# Altium integrated library ubloxLib.IntLib: 88 symbols (part 3 of 3)
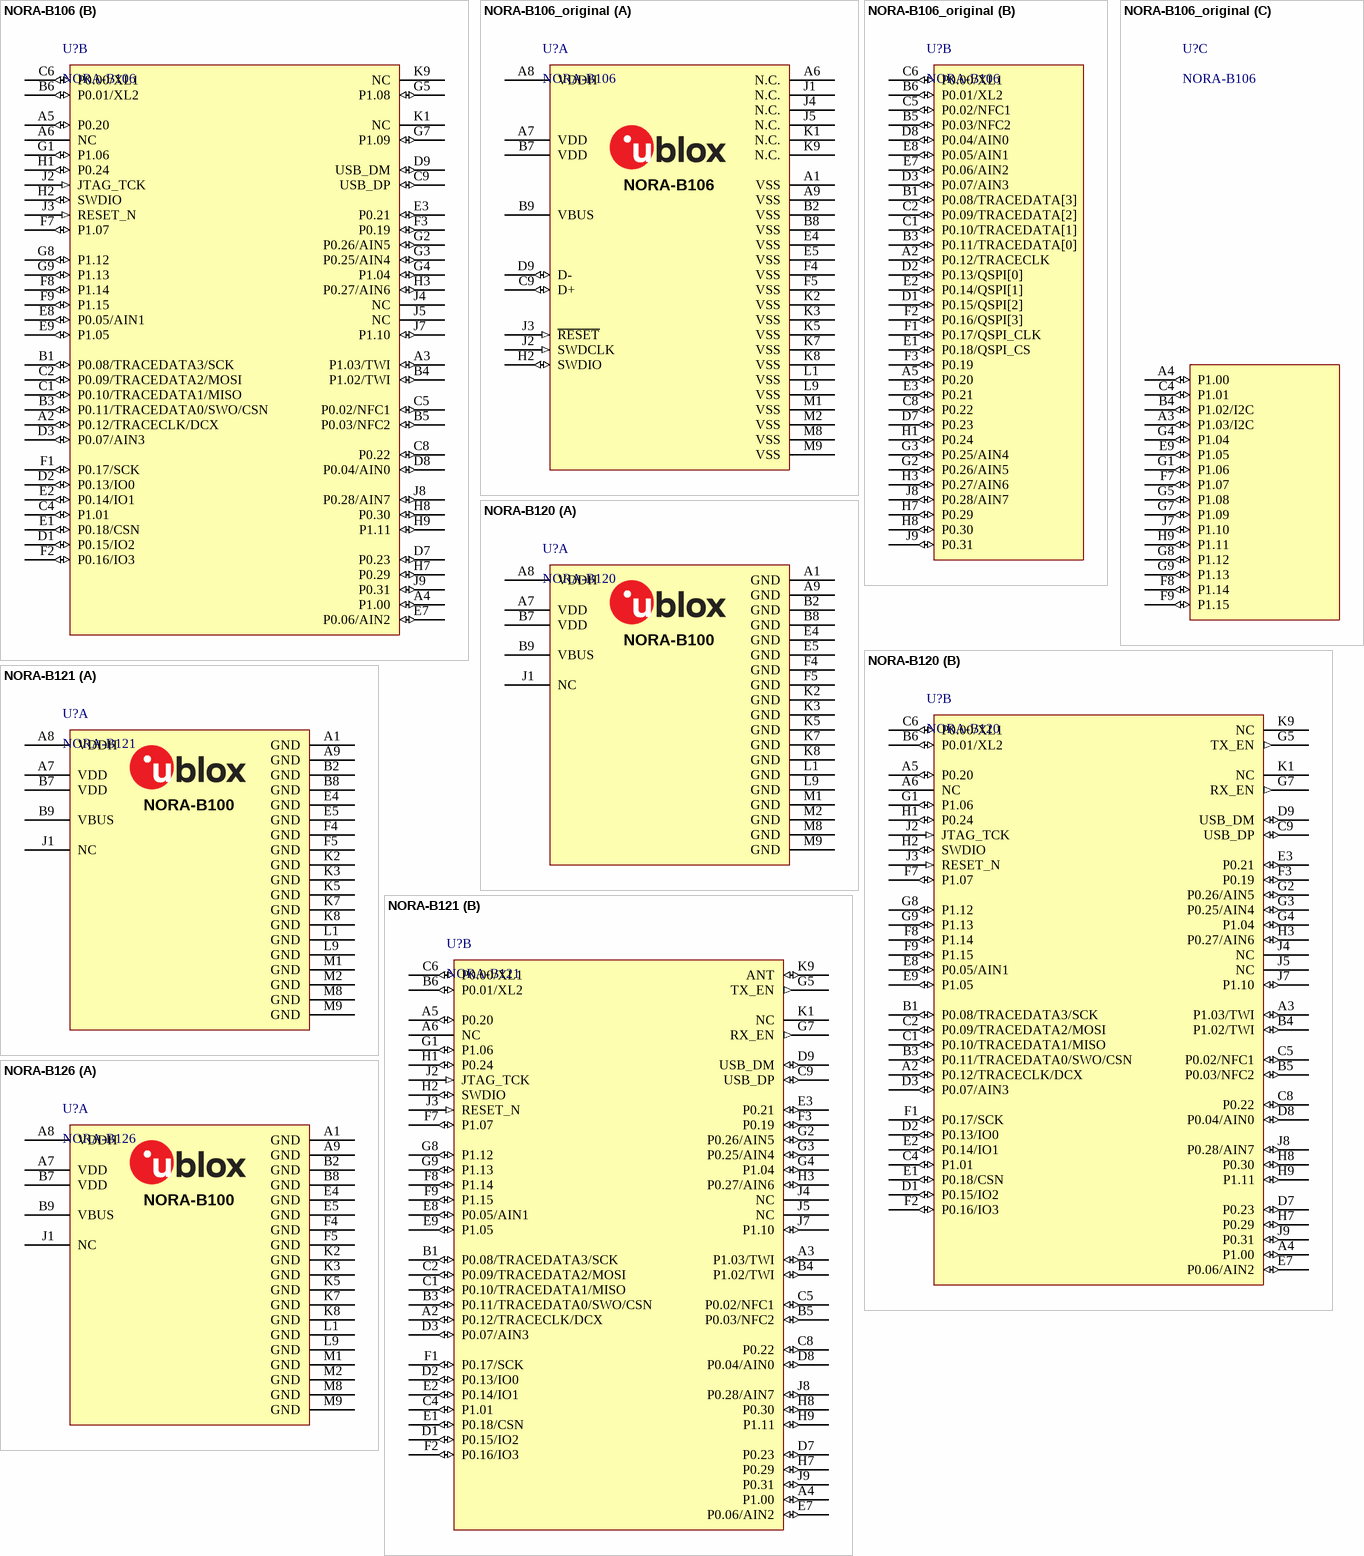
[diagram p21: symbols NORA-B106 to NORA-B126]

## NORA-B120
designator U?
u-blox NORA-B120 Bluetooth 5.2 LE module - dual core - FEM - U.FL; Manufacturer P/N: NORA-B101-00B; Part Number: NORA-B101; Part Description: Stand-alone Bluetooth low energy module - dual-core; Body Size: 14.3 mm x 10.4 mm; Value: NORA-W101; Part Name: NORA-B101; Part_Type: Module; Manufacturer: u-blox; Height: 1.8 mm
footprint NORA_LGA82R_1430X1040X185_UFL (NORA LGA, 82pin ,1.1mm Pitch, 14.3mm x 10.4mm, for NORA-B120)
part A pins: A1 GND (power), A7 VDD (power), A8 VDDH (power), A9 GND (power), B2 GND (power), B7 VDD (power), B8 GND (power), B9 VBUS (power), E4 GND (power), E5 GND (power), F4 GND (power), F5 GND (power), J1 NC, K2 GND (power), K3 GND (power), K5 GND (power), K7 GND (power), K8 GND (power), L1 GND (power), L9 GND (power), M1 GND (power), M2 GND (power), M8 GND (power), M9 GND (power)
part B pins: A2 P0.12/TRACECLK/DCX (io), A3 P1.03/TWI (io), A4 P1.00 (io), A5 P0.20 (io), A6 NC, B1 P0.08/TRACEDATA3/SCK (io), B3 P0.11/TRACEDATA0/SWO/CSN (io), B4 P1.02/TWI (io), B5 P0.03/NFC2 (io), B6 P0.01/XL2 (io), C1 P0.10/TRACEDATA1/MISO (io), C2 P0.09/TRACEDATA2/MOSI (io), C4 P1.01 (io), C5 P0.02/NFC1 (io), C6 P0.00/XL1 (io), C8 P0.22 (io), C9 USB_DP (io), D1 P0.15/IO2 (io), D2 P0.13/IO0 (io), D3 P0.07/AIN3 (io), D7 P0.23 (io), D8 P0.04/AIN0 (io), D9 USB_DM (io), E1 P0.18/CSN (io), E2 P0.14/IO1 (io), E3 P0.21 (io), E7 P0.06/AIN2 (io), E8 P0.05/AIN1 (io), E9 P1.05 (io), F1 P0.17/SCK (io), F2 P0.16/IO3 (io), F3 P0.19 (io), F7 P1.07 (io), F8 P1.14 (io), F9 P1.15 (io), G1 P1.06 (io), G2 P0.26/AIN5 (io), G3 P0.25/AIN4 (io), G4 P1.04 (io), G5 TX_EN (out), G7 RX_EN (out), G8 P1.12 (io), G9 P1.13 (io), H1 P0.24 (io), H2 SWDIO (io), H3 P0.27/AIN6 (io), H7 P0.29 (io), H8 P0.30 (io), H9 P1.11 (io), J2 JTAG_TCK (in), J3 RESET_N (in), J4 NC, J5 NC, J7 P1.10 (io), J8 P0.28/AIN7 (io), J9 P0.31 (io), K1 NC, K9 NC
part A text: NORA-B100

## NORA-B121
designator U?
u-blox NORA-B121 Bluetooth 5.2 LE module - dual core - FEM - antenna pin; Manufacturer P/N: NORA-B101-00B; Part Number: NORA-B101; Part Description: Stand-alone Bluetooth low energy module - dual-core; Body Size: 14.3 mm x 10.4 mm; Value: NORA-W101; Part Name: NORA-B101; Part_Type: Module; Manufacturer: u-blox; Height: 1.8 mm
footprint NORA_LGA82R_1430X1040X185_PIN (NORA LGA, 82pin ,1.1mm Pitch, 14.3mm x 10.4mm, for NORA-B121)
part A pins: A1 GND (power), A7 VDD (power), A8 VDDH (power), A9 GND (power), B2 GND (power), B7 VDD (power), B8 GND (power), B9 VBUS (power), E4 GND (power), E5 GND (power), F4 GND (power), F5 GND (power), J1 NC, K2 GND (power), K3 GND (power), K5 GND (power), K7 GND (power), K8 GND (power), L1 GND (power), L9 GND (power), M1 GND (power), M2 GND (power), M8 GND (power), M9 GND (power)
part B pins: A2 P0.12/TRACECLK/DCX (io), A3 P1.03/TWI (io), A4 P1.00 (io), A5 P0.20 (io), A6 NC, B1 P0.08/TRACEDATA3/SCK (io), B3 P0.11/TRACEDATA0/SWO/CSN (io), B4 P1.02/TWI (io), B5 P0.03/NFC2 (io), B6 P0.01/XL2 (io), C1 P0.10/TRACEDATA1/MISO (io), C2 P0.09/TRACEDATA2/MOSI (io), C4 P1.01 (io), C5 P0.02/NFC1 (io), C6 P0.00/XL1 (io), C8 P0.22 (io), C9 USB_DP (io), D1 P0.15/IO2 (io), D2 P0.13/IO0 (io), D3 P0.07/AIN3 (io), D7 P0.23 (io), D8 P0.04/AIN0 (io), D9 USB_DM (io), E1 P0.18/CSN (io), E2 P0.14/IO1 (io), E3 P0.21 (io), E7 P0.06/AIN2 (io), E8 P0.05/AIN1 (io), E9 P1.05 (io), F1 P0.17/SCK (io), F2 P0.16/IO3 (io), F3 P0.19 (io), F7 P1.07 (io), F8 P1.14 (io), F9 P1.15 (io), G1 P1.06 (io), G2 P0.26/AIN5 (io), G3 P0.25/AIN4 (io), G4 P1.04 (io), G5 TX_EN (out), G7 RX_EN (out), G8 P1.12 (io), G9 P1.13 (io), H1 P0.24 (io), H2 SWDIO (io), H3 P0.27/AIN6 (io), H7 P0.29 (io), H8 P0.30 (io), H9 P1.11 (io), J2 JTAG_TCK (in), J3 RESET_N (in), J4 NC, J5 NC, J7 P1.10 (io), J8 P0.28/AIN7 (io), J9 P0.31 (io), K1 NC, K9 ANT (io)
part A text: NORA-B100

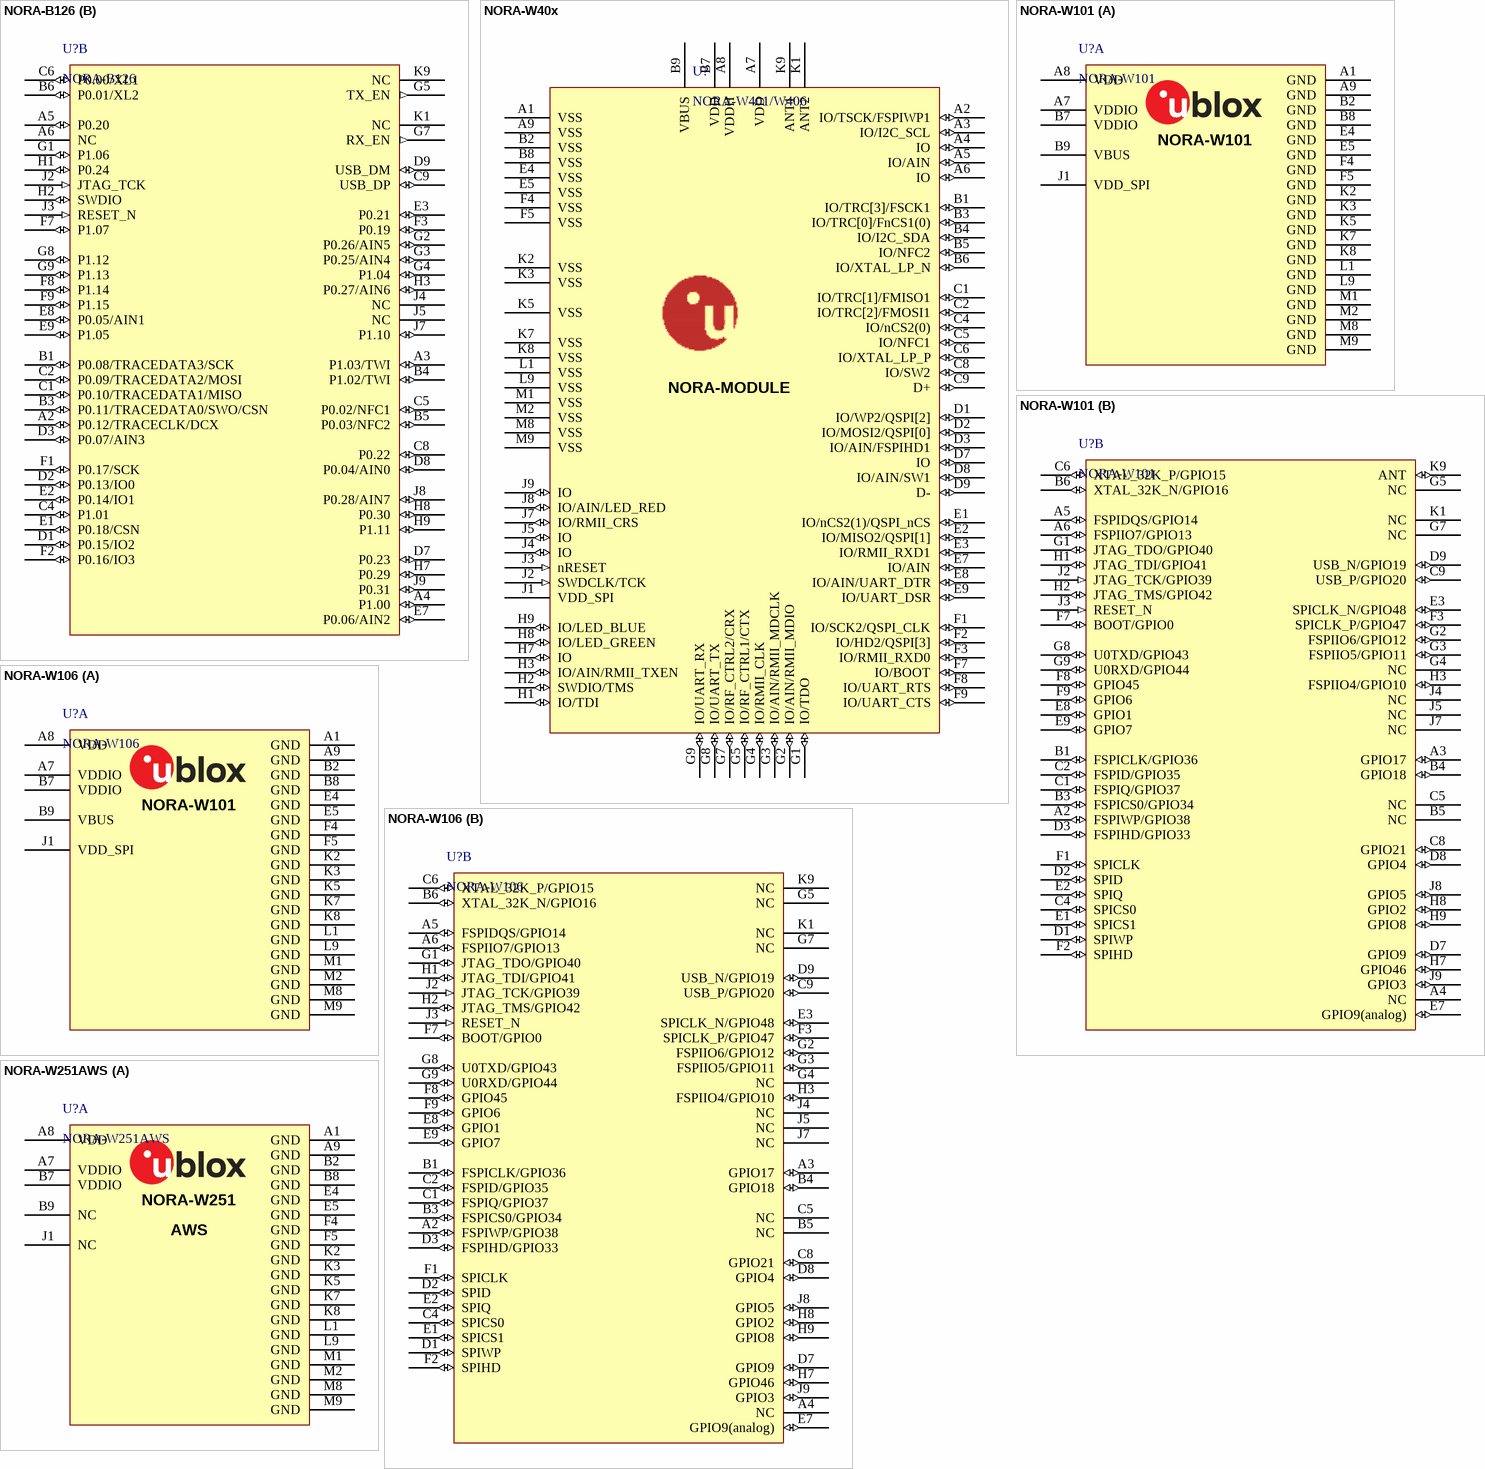
[diagram p14: symbols NORA-B126 to NORA-W251AWS]

## NORA-B126
designator U?
u-blox NORA-B126 Bluetooth 5.2 LE module - dual core - FEM - PCB antenna; Manufacturer P/N: NORA-B101-00B; Part Number: NORA-B101; Part Description: Stand-alone Bluetooth low energy module - dual-core; Body Size: 14.3 mm x 10.4 mm; Value: NORA-W101; Part Name: NORA-B101; Part_Type: Module; Manufacturer: u-blox; Height: 1.8 mm
footprint NORA_LGA82R_1430X1040X185_ANT (NORA LGA, 82pin ,1.1mm Pitch, 14.3mm x 10.4mm, for NORA-B126)
part A pins: A1 GND (power), A7 VDD (power), A8 VDDH (power), A9 GND (power), B2 GND (power), B7 VDD (power), B8 GND (power), B9 VBUS (power), E4 GND (power), E5 GND (power), F4 GND (power), F5 GND (power), J1 NC, K2 GND (power), K3 GND (power), K5 GND (power), K7 GND (power), K8 GND (power), L1 GND (power), L9 GND (power), M1 GND (power), M2 GND (power), M8 GND (power), M9 GND (power)
part B pins: A2 P0.12/TRACECLK/DCX (io), A3 P1.03/TWI (io), A4 P1.00 (io), A5 P0.20 (io), A6 NC, B1 P0.08/TRACEDATA3/SCK (io), B3 P0.11/TRACEDATA0/SWO/CSN (io), B4 P1.02/TWI (io), B5 P0.03/NFC2 (io), B6 P0.01/XL2 (io), C1 P0.10/TRACEDATA1/MISO (io), C2 P0.09/TRACEDATA2/MOSI (io), C4 P1.01 (io), C5 P0.02/NFC1 (io), C6 P0.00/XL1 (io), C8 P0.22 (io), C9 USB_DP (io), D1 P0.15/IO2 (io), D2 P0.13/IO0 (io), D3 P0.07/AIN3 (io), D7 P0.23 (io), D8 P0.04/AIN0 (io), D9 USB_DM (io), E1 P0.18/CSN (io), E2 P0.14/IO1 (io), E3 P0.21 (io), E7 P0.06/AIN2 (io), E8 P0.05/AIN1 (io), E9 P1.05 (io), F1 P0.17/SCK (io), F2 P0.16/IO3 (io), F3 P0.19 (io), F7 P1.07 (io), F8 P1.14 (io), F9 P1.15 (io), G1 P1.06 (io), G2 P0.26/AIN5 (io), G3 P0.25/AIN4 (io), G4 P1.04 (io), G5 TX_EN (out), G7 RX_EN (out), G8 P1.12 (io), G9 P1.13 (io), H1 P0.24 (io), H2 SWDIO (io), H3 P0.27/AIN6 (io), H7 P0.29 (io), H8 P0.30 (io), H9 P1.11 (io), J2 JTAG_TCK (in), J3 RESET_N (in), J4 NC, J5 NC, J7 P1.10 (io), J8 P0.28/AIN7 (io), J9 P0.31 (io), K1 NC, K9 NC
part A text: NORA-B100

## NORA-W40x
designator U?, comment NORA-W401/W406
u-blox NORA module generic symbol; Part Description: NORA MODULE FOOTPRINT; Body Size: 14.3 mm x 10.4 mm; Manufacturer P/N: NORA; Part Number: NORA; Part Name: NORA; Part_Type: Module; Manufacturer: u-blox; Height: 0; Value: NORA
footprint NORA_LGA82R_1430X1040X180_PIN (NORA LGA, 82pin ,1.1mm Pitch, 14.3mm x 10.4mm)
footprint NORA_LGA82R_1430X1040X180_ANT (NORA LGA, 82pin ,1.1mm Pitch, 14.3mm x 10.4mm)
pins: A1 VSS (power) "Ground", A2 IO/TSCK/FSPIWP1 (io) "Trace clock, Fast SPI WP, IO", A3 IO/I2C_SCL (io) "IO, I2C Clock SCL", A4 IO (io), A5 IO/AIN (io) "IO, should be Analog capable if possible", A6 IO (io), A7 VDD (power) "Primary power source and IO reference voltage", A8 VDDH (power) "High voltage power supply", A9 VSS (power) "Ground", B1 IO/TRC[3]/FSCK1 (io) "High-speed SPI Clock, Tracedata[3], IO", B2 VSS (power) "Ground", B3 IO/TRC[0]/FnCS1(0) (io) "High-speed SPI nCS, Tracedata[0], IO", B4 IO/I2C_SDA (io) "IO, I2C Data SDA", B5 IO/NFC2 (io) "NFC Antenna pin 2 or IO", B6 IO/XTAL_LP_N (io) "32kHz XTAL, or 32kHz input, or IO", B7 VDD (power) "Primary power source and IO reference voltage", B8 VSS (power) "Ground", B9 VBUS (power) "+5V USB VBUS Input", C1 IO/TRC[1]/FMISO1 (io) "High-speed SPI MISO, Tracedata[1], IO", C2 IO/TRC[2]/FMOSI1 (io) "High-speed SPI MOSI, Tracedata[2], IO", C4 IO/nCS2(0) (io), C5 IO/NFC1 (io) "NFC Antenna pin 1 or IO", C6 IO/XTAL_LP_P (io), C8 IO/SW2 (io) "IO, assigned to SW2 in u-connect", C9 D+ (io) "USB Data+", D1 IO/WP2/QSPI[2] (io) "IO, Secondary SPI WP QSPI 2 [2]", D2 IO/MOSI2/QSPI[0] (io) "IO, Secondary SPI MOSI, QSPI 2 [0]", D3 IO/AIN/FSPIHD1 (io) "IO, should be Analog capable if possible", D7 IO (io), D8 IO/AIN/SW1 (io) "IO, should be Analog capable if possible, assigned to SW1 in u-connect", D9 D- (io) "USB Data-", E1 IO/nCS2(1)/QSPI_nCS (io) "Secondary SPI chip select, QSPI 2 chip select, IO", E2 IO/MISO2/QSPI[1] (io) "IO, Secondary SPI MISO, QSPI 2 [1]", E3 IO/RMII_RXD1 (io) "Reduced media-independent interface RX data bit 1", E4 VSS (power) "Ground", E5 VSS (power) "Ground", E7 IO/AIN (io) "IO, should be Analog capable if possible", E8 IO/AIN/UART_DTR (io) "IO, should be Analog capable if possible, UART DTR", E9 IO/UART_DSR (io) "IO, UART DSR signal", F1 IO/SCK2/QSPI_CLK (io) "Secondary SPI Clock, QSPI 2 Clock, IO", F2 IO/HD2/QSPI[3] (io) "IO, Secondary SPI HD, QSPI 2 [2]", F3 IO/RMII_RXD0 (io) "IO/Reduced media-independent interface RX data bit 0", F4 VSS (power) "Ground", F5 VSS (power) "Ground", F7 IO/BOOT (io) "IO, may be used to initiate bootloader download", F8 IO/UART_RTS (io) "IO, Primary UART RTS output", F9 IO/UART_CTS (io) "IO, Primary UART CTS input", G1 IO/TDO (io) "IO, JTAG TDO signal", G2 IO/AIN/RMII_MDIO (io) "IO, IO, should be Analog capable if possible, RMII_MDIO", G3 IO/AIN/RMII_MDCLK (io) "IO, IO, should be Analog capable if possible, RMII_MDCLK", G4 IO/RMII_CLK (io) "IO, RMII_CLK", G5 IO/RF_CTRL1/CTX (io) "RF_CTRL1, used to enable Tx for internal FEM modules, IO", G7 IO/RF_CTRL2/CRX (io) "RF_CTRL2, used to enable Rx for internal FEM modules, IO", G8 IO/UART_TX (io) "IO, Primary UART transmit data output", G9 IO/UART_RX (io) "IO, Primary UART receive data input", H1 IO/TDI (io) "IO, JTAG TDI signal", H2 SWDIO/TMS (io) "Debug interface (SWD I/O or JTAG TMS)", H3 IO/AIN/RMII_TXEN (io) "IO, should be Analog capable if possible, RMII_TXEN", H7 IO (io) "IO, may be wired to Blue LED for u-connect-Xpress", H8 IO/LED_GREEN (io) "IO, may be wired to Green LED for u-connect-Xpress", H9 IO/LED_BLUE (io) "IO", J1 VDD_SPI "Alternate IO reference voltage", J2 SWDCLK/TCK (in) "Debug Interface Clock Input", J3 nRESET (in), J4 IO (io), J5 IO (io), J7 IO/RMII_CRS (io) "IO, RMII_CRS", J8 IO/AIN/LED_RED (io) "IO, IO, should be Analog capable if possible, May be connected to Red LED for u-connectXpress", J9 IO (io), K1 ANT2 "Secondary RF Port", K2 VSS (power) "Ground", K3 VSS (power) "Ground", K5 VSS (power) "Ground", K7 VSS (power) "Ground", K8 VSS (power) "Ground", K9 ANT1 "Primary RF Port", L1 VSS (power) "Ground", L9 VSS (power) "Ground", M1 VSS (power) "Ground", M2 VSS (power) "Ground", M8 VSS (power) "Ground", M9 VSS (power) "Ground"
text: NORA-MODULE

## NORA-W101
designator U?
u-blox NORA-W101 Bluetooth LE and Wi-Fi module - antenna pin; Manufacturer P/N: NORA-B101-00B; Part Number: NORA-B101; Part Description: Stand-alone Bluetooth low energy module - dual-core; Body Size: 14.3 mm x 10.4 mm; Part Name: NORA-B101; Part_Type: Module; Manufacturer: u-blox; Height: 1.8 mm; Value: NORA-W101
footprint NORA_LGA82R_1430X1040X190_PIN (NORA LGA, 82pin ,1.1mm Pitch, 14.3mm x 10.4mm x 1.9mm)
part A pins: A1 GND (power), A7 VDDIO (power), A8 VDD (power), A9 GND (power), B2 GND (power), B7 VDDIO (power), B8 GND (power), B9 VBUS (power), E4 GND (power), E5 GND (power), F4 GND (power), F5 GND (power), J1 VDD_SPI (power), K2 GND (power), K3 GND (power), K5 GND (power), K7 GND (power), K8 GND (power), L1 GND (power), L9 GND (power), M1 GND (power), M2 GND (power), M8 GND (power), M9 GND (power)
part B pins: A2 FSPIWP/GPIO38 (io), A3 GPIO17 (io), A4 NC, A5 FSPIDQS/GPIO14 (io), A6 FSPIIO7/GPIO13 (io), B1 FSPICLK/GPIO36 (io), B3 FSPICS0/GPIO34 (io), B4 GPIO18 (io), B5 NC, B6 XTAL_32K_N/GPIO16 (io), C1 FSPIQ/GPIO37 (io), C2 FSPID/GPIO35 (io), C4 SPICS0 (io), C5 NC, C6 XTAL_32K_P/GPIO15 (io), C8 GPIO21 (io), C9 USB_P/GPIO20 (io), D1 SPIWP (io), D2 SPID (io), D3 FSPIHD/GPIO33 (io), D7 GPIO9 (io), D8 GPIO4 (io), D9 USB_N/GPIO19 (io), E1 SPICS1 (io), E2 SPIQ (io), E3 SPICLK_N/GPIO48 (io), E7 GPIO9(analog) (io), E8 GPIO1 (io), E9 GPIO7 (io), F1 SPICLK (io), F2 SPIHD (io), F3 SPICLK_P/GPIO47 (io), F7 BOOT/GPIO0 (io), F8 GPIO45 (io), F9 GPIO6 (io), G1 JTAG_TDO/GPIO40 (io), G2 FSPIIO6/GPIO12 (io), G3 FSPIIO5/GPIO11 (io), G4 NC, G5 NC, G7 NC, G8 U0TXD/GPIO43 (io), G9 U0RXD/GPIO44 (io), H1 JTAG_TDI/GPIO41 (io), H2 JTAG_TMS/GPIO42 (io), H3 FSPIIO4/GPIO10 (io), H7 GPIO46 (io), H8 GPIO2 (io), H9 GPIO8 (io), J2 JTAG_TCK/GPIO39 (in), J3 RESET_N (in), J4 NC, J5 NC, J7 NC, J8 GPIO5 (io), J9 GPIO3 (io), K1 NC, K9 ANT (io)

## NORA-W106
designator U?
u-blox NORA-W106 Bluetooth LE and Wi-Fi module - PCB antenna; Manufacturer P/N: NORA-B101-00B; Part Number: NORA-B101; Part Description: Stand-alone Bluetooth low energy module - dual-core; Body Size: 14.3 mm x 10.4 mm; Value: NORA-W101; Part Name: NORA-B101; Part_Type: Module; Manufacturer: u-blox; Height: 1.8 mm
footprint NORA_LGA82R_1430X1040X190_ANT (NORA LGA, 82pin ,1.1mm Pitch, 14.3mm x 10.4mm x 1.9mm)
part A pins: A1 GND (power), A7 VDDIO (power), A8 VDD (power), A9 GND (power), B2 GND (power), B7 VDDIO (power), B8 GND (power), B9 VBUS (power), E4 GND (power), E5 GND (power), F4 GND (power), F5 GND (power), J1 VDD_SPI (power), K2 GND (power), K3 GND (power), K5 GND (power), K7 GND (power), K8 GND (power), L1 GND (power), L9 GND (power), M1 GND (power), M2 GND (power), M8 GND (power), M9 GND (power)
part B pins: A2 FSPIWP/GPIO38 (io), A3 GPIO17 (io), A4 NC, A5 FSPIDQS/GPIO14 (io), A6 FSPIIO7/GPIO13 (io), B1 FSPICLK/GPIO36 (io), B3 FSPICS0/GPIO34 (io), B4 GPIO18 (io), B5 NC, B6 XTAL_32K_N/GPIO16 (io), C1 FSPIQ/GPIO37 (io), C2 FSPID/GPIO35 (io), C4 SPICS0 (io), C5 NC, C6 XTAL_32K_P/GPIO15 (io), C8 GPIO21 (io), C9 USB_P/GPIO20 (io), D1 SPIWP (io), D2 SPID (io), D3 FSPIHD/GPIO33 (io), D7 GPIO9 (io), D8 GPIO4 (io), D9 USB_N/GPIO19 (io), E1 SPICS1 (io), E2 SPIQ (io), E3 SPICLK_N/GPIO48 (io), E7 GPIO9(analog) (io), E8 GPIO1 (io), E9 GPIO7 (io), F1 SPICLK (io), F2 SPIHD (io), F3 SPICLK_P/GPIO47 (io), F7 BOOT/GPIO0 (io), F8 GPIO45 (io), F9 GPIO6 (io), G1 JTAG_TDO/GPIO40 (io), G2 FSPIIO6/GPIO12 (io), G3 FSPIIO5/GPIO11 (io), G4 NC, G5 NC, G7 NC, G8 U0TXD/GPIO43 (io), G9 U0RXD/GPIO44 (io), H1 JTAG_TDI/GPIO41 (io), H2 JTAG_TMS/GPIO42 (io), H3 FSPIIO4/GPIO10 (io), H7 GPIO46 (io), H8 GPIO2 (io), H9 GPIO8 (io), J2 JTAG_TCK/GPIO39 (in), J3 RESET_N (in), J4 NC, J5 NC, J7 NC, J8 GPIO5 (io), J9 GPIO3 (io), K1 NC, K9 NC

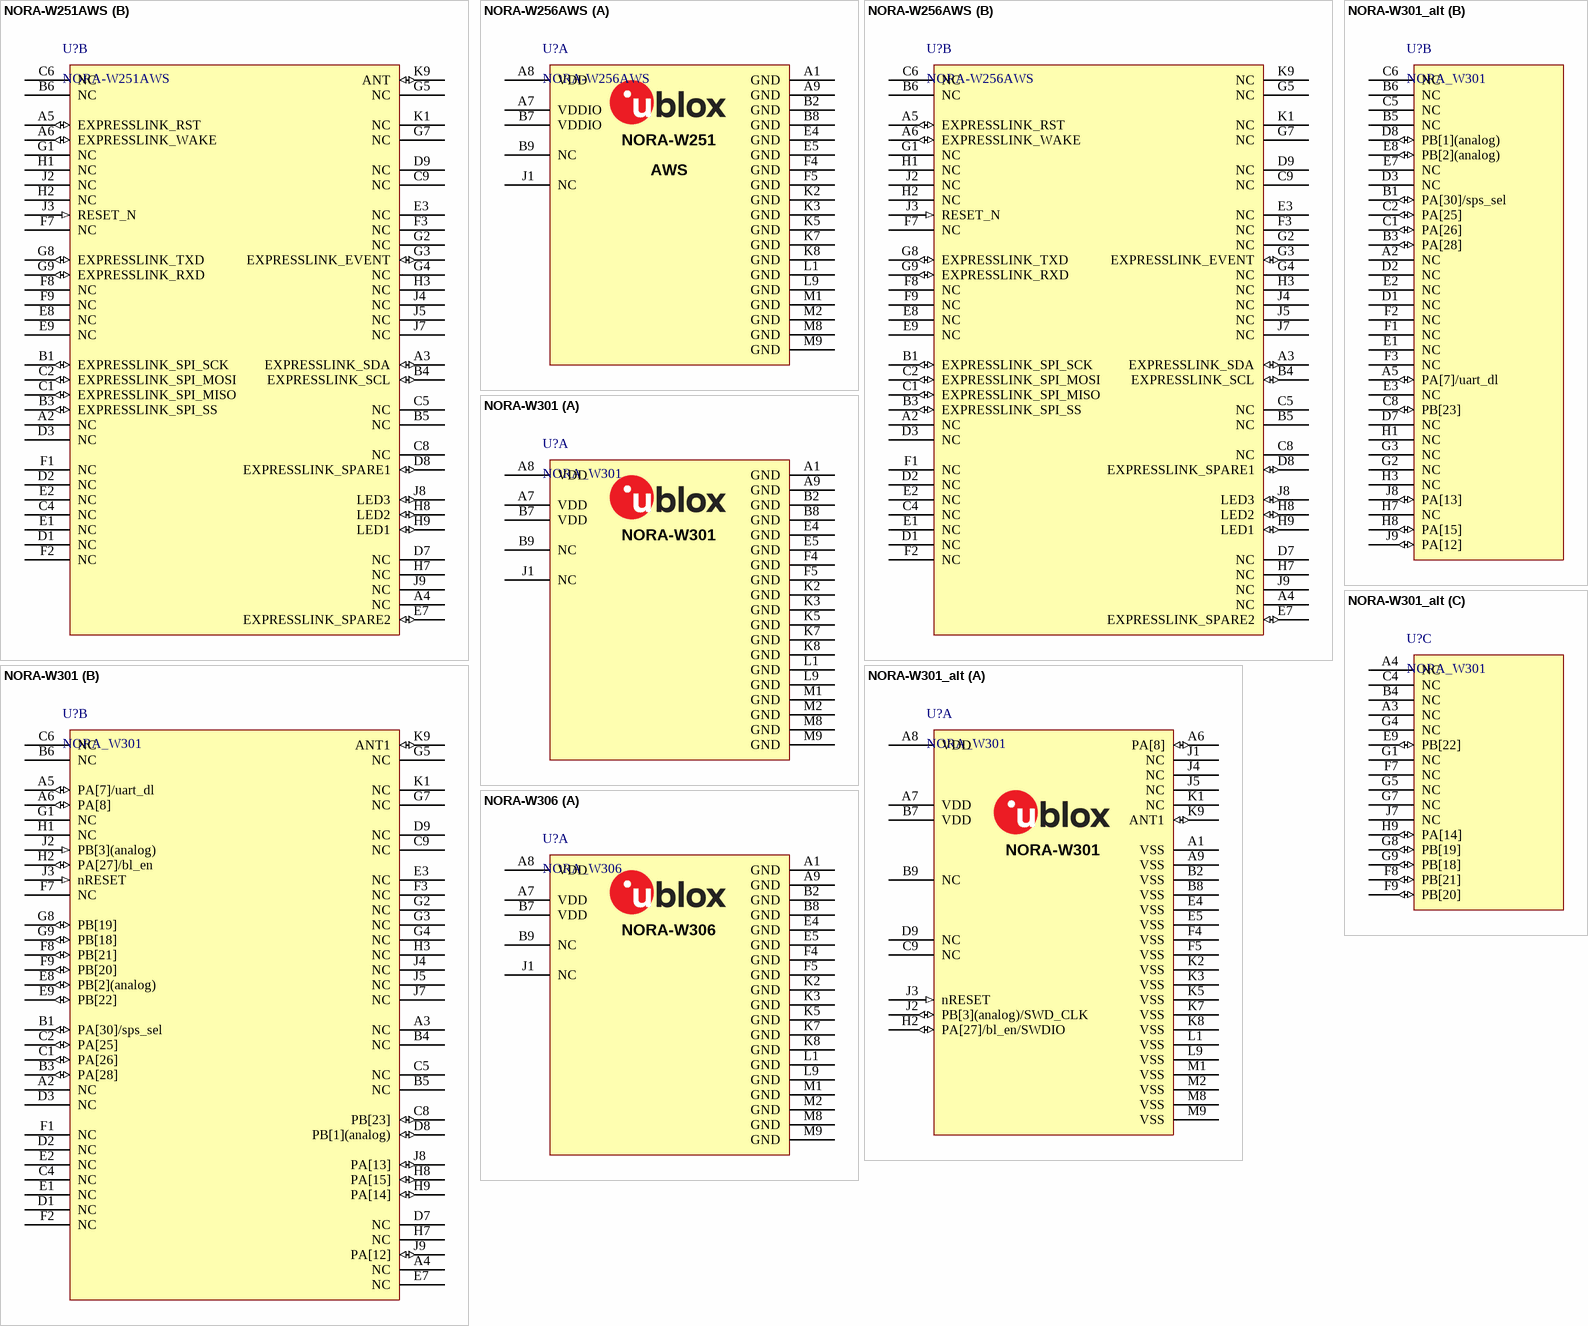
[diagram p15: symbols NORA-W251AWS to NORA-W306]

## NORA-W251AWS
designator U?
u-blox NORA-W251AWS Bluetooth LE and Wi-Fi module - antenna pin; Manufacturer P/N: NORA-B101-00B; Part Number: NORA-B101; Part Description: Stand-alone Bluetooth low energy module - dual-core; Body Size: 14.3 mm x 10.4 mm; Value: NORA-W101; Part Name: NORA-B101; Part_Type: Module; Manufacturer: u-blox; Height: 1.8 mm
footprint NORA_LGA82R_1430X1040X190_PIN (NORA LGA, 82pin ,1.1mm Pitch, 14.3mm x 10.4mm x 1.9mm)
part A pins: A1 GND (power), A7 VDDIO (power), A8 VDD (power), A9 GND (power), B2 GND (power), B7 VDDIO (power), B8 GND (power), B9 NC, E4 GND (power), E5 GND (power), F4 GND (power), F5 GND (power), J1 NC, K2 GND (power), K3 GND (power), K5 GND (power), K7 GND (power), K8 GND (power), L1 GND (power), L9 GND (power), M1 GND (power), M2 GND (power), M8 GND (power), M9 GND (power)
part B pins: A2 NC, A3 EXPRESSLINK_SDA (io), A4 NC, A5 EXPRESSLINK_RST (io), A6 EXPRESSLINK_WAKE (io), B1 EXPRESSLINK_SPI_SCK (io), B3 EXPRESSLINK_SPI_SS (io), B4 EXPRESSLINK_SCL (io), B5 NC, B6 NC, C1 EXPRESSLINK_SPI_MISO (io), C2 EXPRESSLINK_SPI_MOSI (io), C4 NC, C5 NC, C6 NC, C8 NC, C9 NC, D1 NC, D2 NC, D3 NC, D7 NC, D8 EXPRESSLINK_SPARE1 (io), D9 NC, E1 NC, E2 NC, E3 NC, E7 EXPRESSLINK_SPARE2 (io), E8 NC, E9 NC, F1 NC, F2 NC, F3 NC, F7 NC, F8 NC, F9 NC, G1 NC, G2 NC, G3 EXPRESSLINK_EVENT (io), G4 NC, G5 NC, G7 NC, G8 EXPRESSLINK_TXD (io), G9 EXPRESSLINK_RXD (io), H1 NC, H2 NC, H3 NC, H7 NC, H8 LED2 (io), H9 LED1 (io), J2 NC, J3 RESET_N (in), J4 NC, J5 NC, J7 NC, J8 LED3 (io), J9 NC, K1 NC, K9 ANT (io)
part A text: NORA-W251; AWS

## NORA-W256AWS
designator U?
u-blox NORA-W256AWS Bluetooth LE and Wi-Fi module - PCB antenna; Manufacturer P/N: NORA-B101-00B; Part Number: NORA-B101; Part Description: Stand-alone Bluetooth low energy module - dual-core; Body Size: 14.3 mm x 10.4 mm; Value: NORA-W101; Part Name: NORA-B101; Part_Type: Module; Manufacturer: u-blox; Height: 1.8 mm
footprint NORA_LGA82R_1430X1040X190_ANT (NORA LGA, 82pin ,1.1mm Pitch, 14.3mm x 10.4mm x 1.9mm)
part A pins: A1 GND (power), A7 VDDIO (power), A8 VDD (power), A9 GND (power), B2 GND (power), B7 VDDIO (power), B8 GND (power), B9 NC, E4 GND (power), E5 GND (power), F4 GND (power), F5 GND (power), J1 NC, K2 GND (power), K3 GND (power), K5 GND (power), K7 GND (power), K8 GND (power), L1 GND (power), L9 GND (power), M1 GND (power), M2 GND (power), M8 GND (power), M9 GND (power)
part B pins: A2 NC, A3 EXPRESSLINK_SDA (io), A4 NC, A5 EXPRESSLINK_RST (io), A6 EXPRESSLINK_WAKE (io), B1 EXPRESSLINK_SPI_SCK (io), B3 EXPRESSLINK_SPI_SS (io), B4 EXPRESSLINK_SCL (io), B5 NC, B6 NC, C1 EXPRESSLINK_SPI_MISO (io), C2 EXPRESSLINK_SPI_MOSI (io), C4 NC, C5 NC, C6 NC, C8 NC, C9 NC, D1 NC, D2 NC, D3 NC, D7 NC, D8 EXPRESSLINK_SPARE1 (io), D9 NC, E1 NC, E2 NC, E3 NC, E7 EXPRESSLINK_SPARE2 (io), E8 NC, E9 NC, F1 NC, F2 NC, F3 NC, F7 NC, F8 NC, F9 NC, G1 NC, G2 NC, G3 EXPRESSLINK_EVENT (io), G4 NC, G5 NC, G7 NC, G8 EXPRESSLINK_TXD (io), G9 EXPRESSLINK_RXD (io), H1 NC, H2 NC, H3 NC, H7 NC, H8 LED2 (io), H9 LED1 (io), J2 NC, J3 RESET_N (in), J4 NC, J5 NC, J7 NC, J8 LED3 (io), J9 NC, K1 NC, K9 NC
part A text: NORA-W251; AWS

## NORA-W301
designator U?, comment NORA_W301
u-blox NORA-W301 Bluetooth LE and Wi-Fi module - antenna pin; Manufacturer P/N: NORA-B101-00B; Part Number: NORA-B101; Part Description: Stand-alone Bluetooth low energy module - dual-core; Body Size: 14.3 mm x 10.4 mm; Value: NORA-W101; Part Name: NORA-B101; Part_Type: Module; Manufacturer: u-blox; Height: 1.8 mm
footprint NORA_LGA82R_1430X1040X190_W3_PIN (NORA LGA, 82pin ,1.1mm Pitch, 14.3mm x 10.4mm)
part A pins: A1 GND (power), A7 VDD (power), A8 VDD (power), A9 GND (power), B2 GND (power), B7 VDD (power), B8 GND (power), B9 NC, E4 GND (power), E5 GND (power), F4 GND (power), F5 GND (power), J1 NC, K2 GND (power), K3 GND (power), K5 GND (power), K7 GND (power), K8 GND (power), L1 GND (power), L9 GND (power), M1 GND (power), M2 GND (power), M8 GND (power), M9 GND (power)
part B pins: A2 NC, A3 NC, A4 NC, A5 PA[7]/uart_dl (io), A6 PA[8] (io), B1 PA[30]/sps_sel (io), B3 PA[28] (io), B4 NC, B5 NC, B6 NC, C1 PA[26] (io), C2 PA[25] (io), C4 NC, C5 NC, C6 NC, C8 PB[23] (io), C9 NC, D1 NC, D2 NC, D3 NC, D7 NC, D8 PB[1](analog) (io), D9 NC, E1 NC, E2 NC, E3 NC, E7 NC, E8 PB[2](analog) (io), E9 PB[22] (io), F1 NC, F2 NC, F3 NC, F7 NC, F8 PB[21] (io), F9 PB[20] (io), G1 NC, G2 NC, G3 NC, G4 NC, G5 NC, G7 NC, G8 PB[19] (io), G9 PB[18] (io), H1 NC, H2 PA[27]/bl_en (io), H3 NC, H7 NC, H8 PA[15] (io), H9 PA[14] (io), J2 PB[3](analog) (in), J3 nRESET (in), J4 NC, J5 NC, J7 NC, J8 PA[13] (io), J9 PA[12] (io), K1 NC, K9 ANT1 (io)

## NORA-W301_alt
designator U?, comment NORA_W301
u-blox NORA-W301 Bluetooth LE and Wi-Fi module - antenna pin; Manufacturer P/N: NORA-B101-00B; Part Number: NORA-B101; Part Description: Stand-alone Bluetooth low energy module - dual-core; Body Size: 14.3 mm x 10.4 mm; Value: NORA-W101; Part Name: NORA-B101; Part_Type: Module; Manufacturer: u-blox; Height: 1.8 mm
footprint NORA_LGA82R_1430X1040X190_W3_PIN (NORA LGA, 82pin ,1.1mm Pitch, 14.3mm x 10.4mm)
part A pins: A1 VSS (power), A6 PA[8] (io), A7 VDD (power), A8 VDD (power), A9 VSS (power), B2 VSS (power), B7 VDD (power), B8 VSS (power), B9 NC, C9 NC (hiz), D9 NC (hiz), E4 VSS (power), E5 VSS (power), F4 VSS (power), F5 VSS (power), H2 PA[27]/bl_en/SWDIO (io), J1 NC (hiz), J2 PB[3](analog)/SWD_CLK (io), J3 nRESET (in), J4 NC (hiz), J5 NC (hiz), K1 NC (hiz), K2 VSS (power), K3 VSS (power), K5 VSS (power), K7 VSS (power), K8 VSS (power), K9 ANT1 (io), L1 VSS (power), L9 VSS (power), M1 VSS (power), M2 VSS (power), M8 VSS (power), M9 VSS (power)
part B pins: A2 NC (hiz), A5 PA[7]/uart_dl (io), B1 PA[30]/sps_sel (io), B3 PA[28] (io), B5 NC (hiz), B6 NC (hiz), C1 PA[26] (io), C2 PA[25] (io), C5 NC (hiz), C6 NC (hiz), C8 PB[23] (io), D1 NC (hiz), D2 NC (hiz), D3 NC (hiz), D7 NC (hiz), D8 PB[1](analog) (io), E1 NC (hiz), E2 NC (hiz), E3 NC (hiz), E7 NC (hiz), E8 PB[2](analog) (io), F1 NC (hiz), F2 NC (hiz), F3 NC (hiz), G2 NC (hiz), G3 NC (hiz), H1 NC (hiz), H3 NC (hiz), H7 NC (hiz), H8 PA[15] (io), J8 PA[13] (io), J9 PA[12] (io)
part C pins: A3 NC (hiz), A4 NC (hiz), B4 NC (hiz), C4 NC (hiz), E9 PB[22] (io), F7 NC (hiz), F8 PB[21] (io), F9 PB[20] (io), G1 NC (hiz), G4 NC (hiz), G5 NC (hiz), G7 NC (hiz), G8 PB[19] (io), G9 PB[18] (io), H9 PA[14] (io), J7 NC (hiz)
part A text: NORA-W301

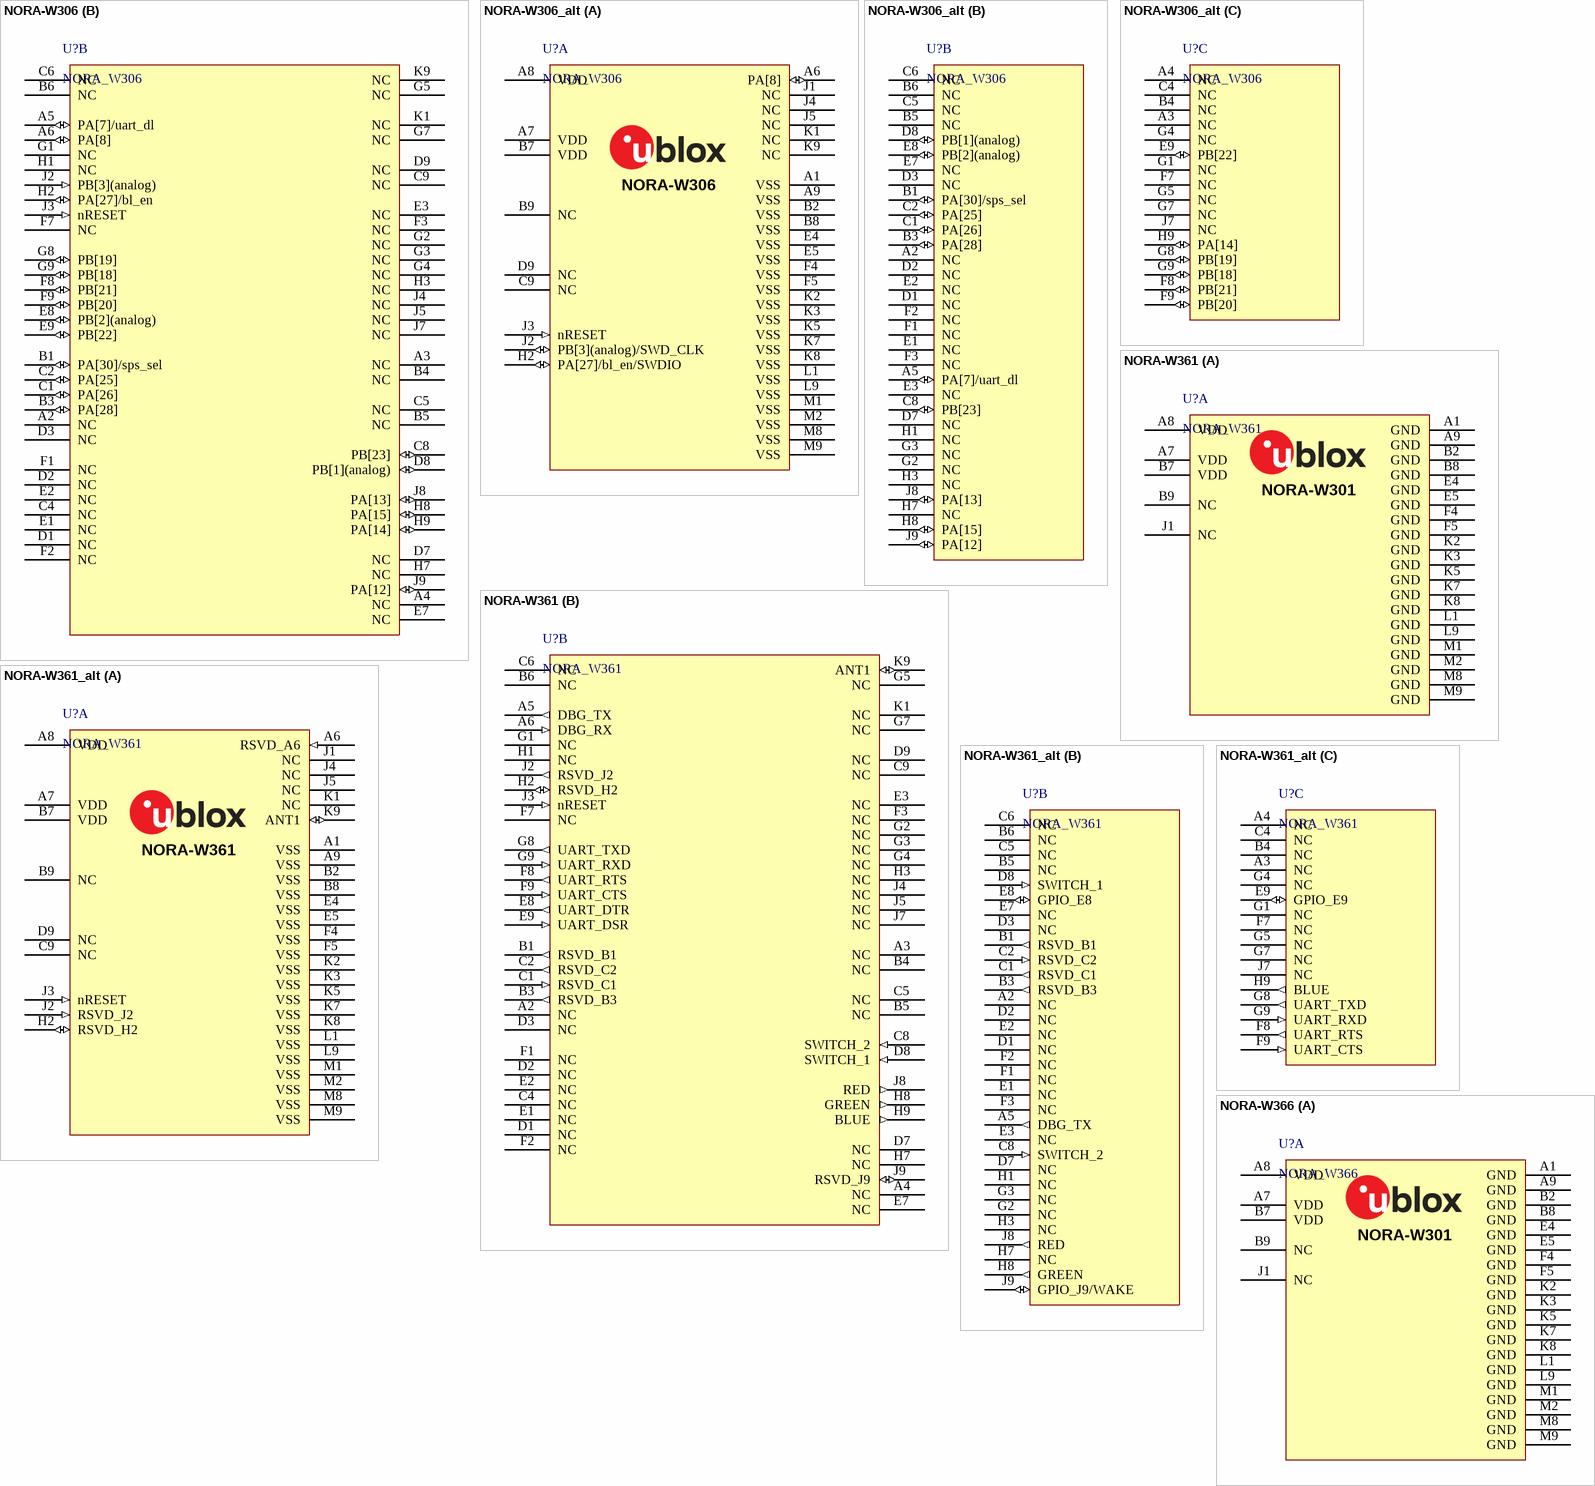
[diagram p16: symbols NORA-W306 to NORA-W366]

## NORA-W306
designator U?, comment NORA_W306
u-blox NORA-W306 Bluetooth LE and Wi-Fi module - antenna pin; Manufacturer P/N: NORA-B101-00B; Part Number: NORA-B101; Part Description: Stand-alone Bluetooth low energy module - dual-core; Body Size: 14.3 mm x 10.4 mm; Value: NORA-W101; Part Name: NORA-B101; Part_Type: Module; Manufacturer: u-blox; Height: 1.8 mm
footprint NORA_LGA82R_1430X1040X190_W3_ANT (NORA LGA, 82pin ,1.1mm Pitch, 14.3mm x 10.4mm)
part A pins: A1 GND (power), A7 VDD (power), A8 VDD (power), A9 GND (power), B2 GND (power), B7 VDD (power), B8 GND (power), B9 NC, E4 GND (power), E5 GND (power), F4 GND (power), F5 GND (power), J1 NC, K2 GND (power), K3 GND (power), K5 GND (power), K7 GND (power), K8 GND (power), L1 GND (power), L9 GND (power), M1 GND (power), M2 GND (power), M8 GND (power), M9 GND (power)
part B pins: A2 NC, A3 NC, A4 NC, A5 PA[7]/uart_dl (io), A6 PA[8] (io), B1 PA[30]/sps_sel (io), B3 PA[28] (io), B4 NC, B5 NC, B6 NC, C1 PA[26] (io), C2 PA[25] (io), C4 NC, C5 NC, C6 NC, C8 PB[23] (io), C9 NC, D1 NC, D2 NC, D3 NC, D7 NC, D8 PB[1](analog) (io), D9 NC, E1 NC, E2 NC, E3 NC, E7 NC, E8 PB[2](analog) (io), E9 PB[22] (io), F1 NC, F2 NC, F3 NC, F7 NC, F8 PB[21] (io), F9 PB[20] (io), G1 NC, G2 NC, G3 NC, G4 NC, G5 NC, G7 NC, G8 PB[19] (io), G9 PB[18] (io), H1 NC, H2 PA[27]/bl_en (io), H3 NC, H7 NC, H8 PA[15] (io), H9 PA[14] (io), J2 PB[3](analog) (in), J3 nRESET (in), J4 NC, J5 NC, J7 NC, J8 PA[13] (io), J9 PA[12] (io), K1 NC, K9 NC

## NORA-W306_alt
designator U?, comment NORA_W306
u-blox NORA-W306 Bluetooth LE and Wi-Fi module - antenna pin; Manufacturer P/N: NORA-B101-00B; Part Number: NORA-B101; Part Description: Stand-alone Bluetooth low energy module - dual-core; Body Size: 14.3 mm x 10.4 mm; Value: NORA-W101; Part Name: NORA-B101; Part_Type: Module; Manufacturer: u-blox; Height: 1.8 mm
footprint NORA_LGA82R_1430X1040X190_W3_ANT (NORA LGA, 82pin ,1.1mm Pitch, 14.3mm x 10.4mm)
part A pins: A1 VSS (power), A6 PA[8] (io), A7 VDD (power), A8 VDD (power), A9 VSS (power), B2 VSS (power), B7 VDD (power), B8 VSS (power), B9 NC, C9 NC (hiz), D9 NC (hiz), E4 VSS (power), E5 VSS (power), F4 VSS (power), F5 VSS (power), H2 PA[27]/bl_en/SWDIO (io), J1 NC (hiz), J2 PB[3](analog)/SWD_CLK (io), J3 nRESET (in), J4 NC (hiz), J5 NC (hiz), K1 NC (hiz), K2 VSS (power), K3 VSS (power), K5 VSS (power), K7 VSS (power), K8 VSS (power), K9 NC (hiz), L1 VSS (power), L9 VSS (power), M1 VSS (power), M2 VSS (power), M8 VSS (power), M9 VSS (power)
part B pins: A2 NC (hiz), A5 PA[7]/uart_dl (io), B1 PA[30]/sps_sel (io), B3 PA[28] (io), B5 NC (hiz), B6 NC (hiz), C1 PA[26] (io), C2 PA[25] (io), C5 NC (hiz), C6 NC (hiz), C8 PB[23] (io), D1 NC (hiz), D2 NC (hiz), D3 NC (hiz), D7 NC (hiz), D8 PB[1](analog) (io), E1 NC (hiz), E2 NC (hiz), E3 NC (hiz), E7 NC (hiz), E8 PB[2](analog) (io), F1 NC (hiz), F2 NC (hiz), F3 NC (hiz), G2 NC (hiz), G3 NC (hiz), H1 NC (hiz), H3 NC (hiz), H7 NC (hiz), H8 PA[15] (io), J8 PA[13] (io), J9 PA[12] (io)
part C pins: A3 NC (hiz), A4 NC (hiz), B4 NC (hiz), C4 NC (hiz), E9 PB[22] (io), F7 NC (hiz), F8 PB[21] (io), F9 PB[20] (io), G1 NC (hiz), G4 NC (hiz), G5 NC (hiz), G7 NC (hiz), G8 PB[19] (io), G9 PB[18] (io), H9 PA[14] (io), J7 NC (hiz)
part A text: NORA-W306

## NORA-W361
designator U?, comment NORA_W361
u-blox NORA-W361 Bluetooth LE and Wi-Fi module - antenna pin; Manufacturer P/N: NORA-B101-00B; Part Number: NORA-B101; Part Description: Stand-alone Bluetooth low energy module - dual-core; Body Size: 14.3 mm x 10.4 mm; Value: NORA-W101; Part Name: NORA-B101; Part_Type: Module; Manufacturer: u-blox; Height: 1.8 mm
footprint NORA_LGA82R_1430X1040X190_W3_PIN (NORA LGA, 82pin ,1.1mm Pitch, 14.3mm x 10.4mm)
part A pins: A1 GND (power), A7 VDD (power), A8 VDD (power), A9 GND (power), B2 GND (power), B7 VDD (power), B8 GND (power), B9 NC, E4 GND (power), E5 GND (power), F4 GND (power), F5 GND (power), J1 NC, K2 GND (power), K3 GND (power), K5 GND (power), K7 GND (power), K8 GND (power), L1 GND (power), L9 GND (power), M1 GND (power), M2 GND (power), M8 GND (power), M9 GND (power)
part B pins: A2 NC, A3 NC, A4 NC, A5 DBG_TX (out), A6 DBG_RX (in), B1 RSVD_B1 (out), B3 RSVD_B3 (out), B4 NC, B5 NC, B6 NC, C1 RSVD_C1 (in), C2 RSVD_C2 (out), C4 NC, C5 NC, C6 NC, C8 SWITCH_2 (in), C9 NC, D1 NC, D2 NC, D3 NC, D7 NC, D8 SWITCH_1 (in), D9 NC, E1 NC, E2 NC, E3 NC, E7 NC, E8 UART_DTR (out), E9 UART_DSR (in), F1 NC, F2 NC, F3 NC, F7 NC, F8 UART_RTS (out), F9 UART_CTS (in), G1 NC, G2 NC, G3 NC, G4 NC, G5 NC, G7 NC, G8 UART_TXD (out), G9 UART_RXD (in), H1 NC, H2 RSVD_H2 (io), H3 NC, H7 NC, H8 GREEN (out), H9 BLUE (out), J2 RSVD_J2 (out), J3 nRESET (in), J4 NC, J5 NC, J7 NC, J8 RED (out), J9 RSVD_J9 (io), K1 NC, K9 ANT1 (io)
part A text: NORA-W301

## NORA-W361_alt
designator U?, comment NORA_W361
u-blox NORA-W361 Bluetooth LE and Wi-Fi module - antenna pin; Manufacturer P/N: NORA-B101-00B; Part Number: NORA-B101; Part Description: Stand-alone Bluetooth low energy module - dual-core; Body Size: 14.3 mm x 10.4 mm; Value: NORA-W101; Part Name: NORA-B101; Part_Type: Module; Manufacturer: u-blox; Height: 1.8 mm
footprint NORA_LGA82R_1430X1040X190_W3_PIN (NORA LGA, 82pin ,1.1mm Pitch, 14.3mm x 10.4mm)
part A pins: A1 VSS (power), A6 RSVD_A6 (in), A7 VDD (power), A8 VDD (power), A9 VSS (power), B2 VSS (power), B7 VDD (power), B8 VSS (power), B9 NC, C9 NC (hiz), D9 NC (hiz), E4 VSS (power), E5 VSS (power), F4 VSS (power), F5 VSS (power), H2 RSVD_H2 (io), J1 NC (hiz), J2 RSVD_J2 (in), J3 nRESET (in), J4 NC (hiz), J5 NC (hiz), K1 NC (hiz), K2 VSS (power), K3 VSS (power), K5 VSS (power), K7 VSS (power), K8 VSS (power), K9 ANT1 (io), L1 VSS (power), L9 VSS (power), M1 VSS (power), M2 VSS (power), M8 VSS (power), M9 VSS (power)
part B pins: A2 NC (hiz), A5 DBG_TX (out), B1 RSVD_B1 (out), B3 RSVD_B3 (out), B5 NC (hiz), B6 NC (hiz), C1 RSVD_C1 (out), C2 RSVD_C2 (in), C5 NC (hiz), C6 NC (hiz), C8 SWITCH_2 (in), D1 NC (hiz), D2 NC (hiz), D3 NC (hiz), D7 NC (hiz), D8 SWITCH_1 (in), E1 NC (hiz), E2 NC (hiz), E3 NC (hiz), E7 NC (hiz), E8 GPIO_E8 (io), F1 NC (hiz), F2 NC (hiz), F3 NC (hiz), G2 NC (hiz), G3 NC (hiz), H1 NC (hiz), H3 NC (hiz), H7 NC (hiz), H8 GREEN (out), J8 RED (out), J9 GPIO_J9/WAKE (io)
part C pins: A3 NC (hiz), A4 NC (hiz), B4 NC (hiz), C4 NC (hiz), E9 GPIO_E9 (io), F7 NC (hiz), F8 UART_RTS (out), F9 UART_CTS (in), G1 NC (hiz), G4 NC (hiz), G5 NC (hiz), G7 NC (hiz), G8 UART_TXD (out), G9 UART_RXD (in), H9 BLUE (out), J7 NC (hiz)
part A text: NORA-W361

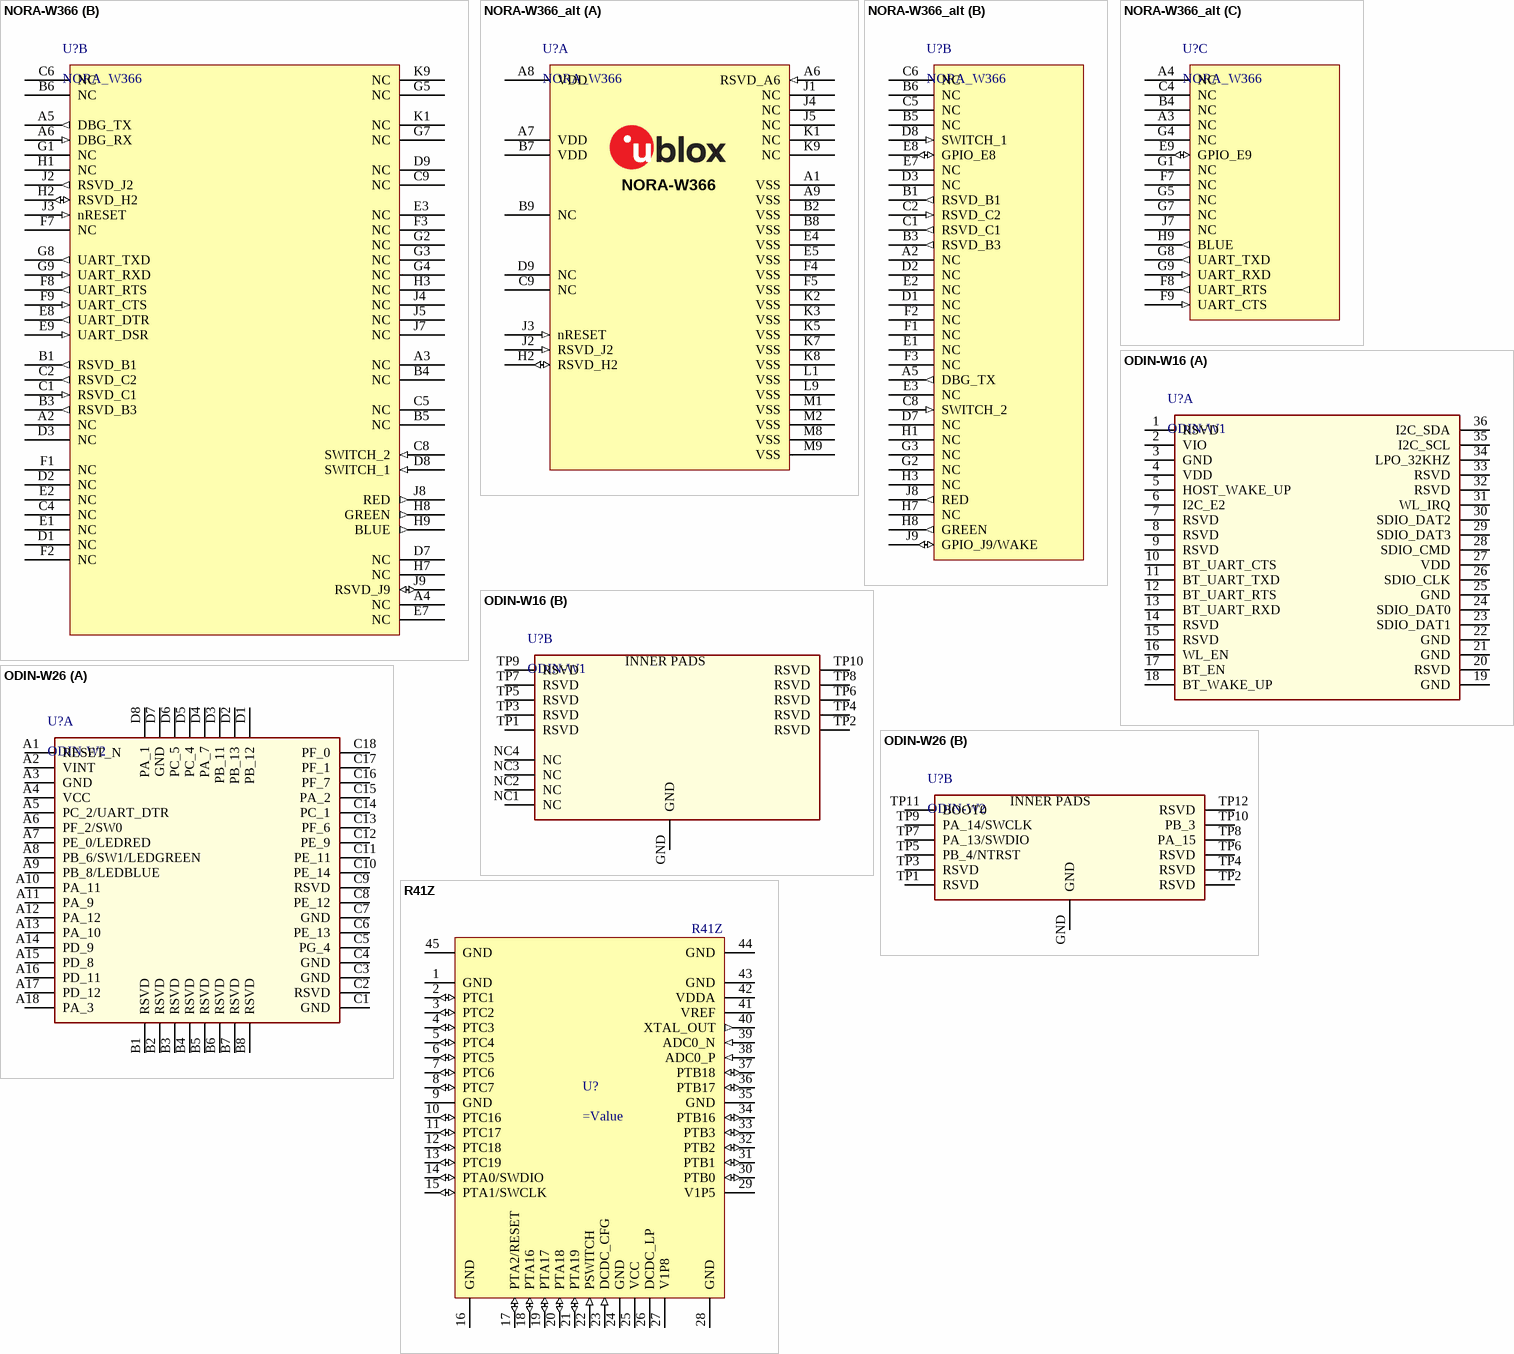
[diagram p17: symbols NORA-W366 to R41Z]

## NORA-W366
designator U?, comment NORA_W366
u-blox NORA-W366 Bluetooth LE and Wi-Fi module - PCB antenna; Manufacturer P/N: NORA-B101-00B; Part Number: NORA-B101; Part Description: Stand-alone Bluetooth low energy module - dual-core; Body Size: 14.3 mm x 10.4 mm; Value: NORA-W101; Part Name: NORA-B101; Part_Type: Module; Manufacturer: u-blox; Height: 1.8 mm
footprint NORA_LGA82R_1430X1040X190_W3_ANT (NORA LGA, 82pin ,1.1mm Pitch, 14.3mm x 10.4mm)
part A pins: A1 GND (power), A7 VDD (power), A8 VDD (power), A9 GND (power), B2 GND (power), B7 VDD (power), B8 GND (power), B9 NC, E4 GND (power), E5 GND (power), F4 GND (power), F5 GND (power), J1 NC, K2 GND (power), K3 GND (power), K5 GND (power), K7 GND (power), K8 GND (power), L1 GND (power), L9 GND (power), M1 GND (power), M2 GND (power), M8 GND (power), M9 GND (power)
part B pins: A2 NC, A3 NC, A4 NC, A5 DBG_TX (out), A6 DBG_RX (in), B1 RSVD_B1 (out), B3 RSVD_B3 (out), B4 NC, B5 NC, B6 NC, C1 RSVD_C1 (in), C2 RSVD_C2 (out), C4 NC, C5 NC, C6 NC, C8 SWITCH_2 (in), C9 NC, D1 NC, D2 NC, D3 NC, D7 NC, D8 SWITCH_1 (in), D9 NC, E1 NC, E2 NC, E3 NC, E7 NC, E8 UART_DTR (out), E9 UART_DSR (in), F1 NC, F2 NC, F3 NC, F7 NC, F8 UART_RTS (out), F9 UART_CTS (in), G1 NC, G2 NC, G3 NC, G4 NC, G5 NC, G7 NC, G8 UART_TXD (out), G9 UART_RXD (in), H1 NC, H2 RSVD_H2 (io), H3 NC, H7 NC, H8 GREEN (out), H9 BLUE (out), J2 RSVD_J2 (out), J3 nRESET (in), J4 NC, J5 NC, J7 NC, J8 RED (out), J9 RSVD_J9 (io), K1 NC, K9 NC (hiz)
part A text: NORA-W301

## NORA-W366_alt
designator U?, comment NORA_W366
u-blox NORA-W361 Bluetooth LE and Wi-Fi module - antenna pin; Manufacturer P/N: NORA-B101-00B; Part Number: NORA-B101; Part Description: Stand-alone Bluetooth low energy module - dual-core; Body Size: 14.3 mm x 10.4 mm; Value: NORA-W101; Part Name: NORA-B101; Part_Type: Module; Manufacturer: u-blox; Height: 1.8 mm
footprint NORA_LGA82R_1430X1040X190_W3_ANT (NORA LGA, 82pin ,1.1mm Pitch, 14.3mm x 10.4mm)
part A pins: A1 VSS (power), A6 RSVD_A6 (in), A7 VDD (power), A8 VDD (power), A9 VSS (power), B2 VSS (power), B7 VDD (power), B8 VSS (power), B9 NC, C9 NC (hiz), D9 NC (hiz), E4 VSS (power), E5 VSS (power), F4 VSS (power), F5 VSS (power), H2 RSVD_H2 (io), J1 NC (hiz), J2 RSVD_J2 (in), J3 nRESET (in), J4 NC (hiz), J5 NC (hiz), K1 NC (hiz), K2 VSS (power), K3 VSS (power), K5 VSS (power), K7 VSS (power), K8 VSS (power), K9 NC (hiz), L1 VSS (power), L9 VSS (power), M1 VSS (power), M2 VSS (power), M8 VSS (power), M9 VSS (power)
part B pins: A2 NC (hiz), A5 DBG_TX (out), B1 RSVD_B1 (out), B3 RSVD_B3 (out), B5 NC (hiz), B6 NC (hiz), C1 RSVD_C1 (out), C2 RSVD_C2 (in), C5 NC (hiz), C6 NC (hiz), C8 SWITCH_2 (in), D1 NC (hiz), D2 NC (hiz), D3 NC (hiz), D7 NC (hiz), D8 SWITCH_1 (in), E1 NC (hiz), E2 NC (hiz), E3 NC (hiz), E7 NC (hiz), E8 GPIO_E8 (io), F1 NC (hiz), F2 NC (hiz), F3 NC (hiz), G2 NC (hiz), G3 NC (hiz), H1 NC (hiz), H3 NC (hiz), H7 NC (hiz), H8 GREEN (out), J8 RED (out), J9 GPIO_J9/WAKE (io)
part C pins: A3 NC (hiz), A4 NC (hiz), B4 NC (hiz), C4 NC (hiz), E9 GPIO_E9 (io), F7 NC (hiz), F8 UART_RTS (out), F9 UART_CTS (in), G1 NC (hiz), G4 NC (hiz), G5 NC (hiz), G7 NC (hiz), G8 UART_TXD (out), G9 UART_RXD (in), H9 BLUE (out), J7 NC (hiz)
part A text: NORA-W366

## ODIN-W16
designator U?, comment ODIN-W1
u-blox ODIN-W16 host-based multiradio module with Wi-Fi and Bluetooth; Manufacturer: u-blox; Part Description: Host-based multiradio module with Wi-Fi and Bluetooth; Value: ODIN-W1
footprint ODIN-W16 (ODIN-W16 WiFi/BT module)
part A pins: 1 RSVD, 2 VIO, 3 GND, 4 VDD, 5 HOST_WAKE_UP, 6 I2C_E2, 7 RSVD, 8 RSVD, 9 RSVD, 10 BT_UART_CTS, 11 BT_UART_TXD, 12 BT_UART_RTS, 13 BT_UART_RXD, 14 RSVD, 15 RSVD, 16 WL_EN, 17 BT_EN, 18 BT_WAKE_UP, 19 GND, 20 RSVD, 21 GND, 22 GND, 23 SDIO_DAT1, 24 SDIO_DAT0, 25 GND, 26 SDIO_CLK, 27 VDD, 28 SDIO_CMD, 29 SDIO_DAT3, 30 SDIO_DAT2, 31 WL_IRQ, 32 RSVD, 33 RSVD, 34 LPO_32KHZ, 35 I2C_SCL, 36 I2C_SDA
part B pins: GND, NC1 NC, NC2 NC, NC3 NC, NC4 NC, TP1 RSVD, TP2 RSVD, TP3 RSVD, TP4 RSVD, TP5 RSVD, TP6 RSVD, TP7 RSVD, TP8 RSVD, TP9 RSVD, TP10 RSVD
1 alternate drawing of the same symbol
part B text: INNER PADS

## ODIN-W26
designator U?, comment ODIN-W2
u-blox ODIN-W26 host-based multiradio module with Wi-Fi and Bluetooth; Part Description: Stand-alone multiradio module with Wi-Fi & Bluetooth; Manufacturer: u-blox; Value: ODIN-W2
footprint ODIN-W26 (ODIN-W262 WiFi/BT  module)
part A pins: A1 RESET_N, A2 VINT, A3 GND, A4 VCC, A5 PC_2/UART_DTR, A6 PF_2/SW0, A7 PE_0/LEDRED, A8 PB_6/SW1/LEDGREEN, A9 PB_8/LEDBLUE, A10 PA_11, A11 PA_9, A12 PA_12, A13 PA_10, A14 PD_9, A15 PD_8, A16 PD_11, A17 PD_12, A18 PA_3, B1 RSVD, B2 RSVD, B3 RSVD, B4 RSVD, B5 RSVD, B6 RSVD, B7 RSVD, B8 RSVD, C1 GND, C2 RSVD, C3 GND, C4 GND, C5 PG_4, C6 PE_13, C7 GND, C8 PE_12, C9 RSVD, C10 PE_14, C11 PE_11, C12 PE_9, C13 PF_6, C14 PC_1, C15 PA_2, C16 PF_7, C17 PF_1, C18 PF_0, D1 PB_12, D2 PB_13, D3 PB_11, D4 PA_7, D5 PC_4, D6 PC_5, D7 GND, D8 PA_1
part B pins: GND, TP1 RSVD, TP2 RSVD, TP3 RSVD, TP4 RSVD, TP5 PB_4/NTRST, TP6 RSVD, TP7 PA_13/SWDIO, TP8 PA_15, TP9 PA_14/SWCLK, TP10 PB_3, TP11 BOOT0, TP12 RSVD
part B text: INNER PADS

## R41Z
designator U?  Part Number: R41Z
u-blox R41Z Bluetooth 4.2 LE, 802.15.4 module; Manufacturer P/N: R41Z-TA-R; Body Size: 15.2mmx10.6mm; Internal Antenna: Yes; RF Protocol: BT 4.2 LE, 802.15.4, 2.4GHz Proprietary; Height: 2.1mm; Manufacturer: u-blox
footprint R41Z_LGA45S_1620X1060X210_PCB (LGA, 45pin, 1.1mm Pitch, 1.2mm x 10.6mm)
pins: 1 GND (power), 2 PTC1 (io), 3 PTC2 (io), 4 PTC3 (io), 5 PTC4 (io), 6 PTC5 (io), 7 PTC6 (io), 8 PTC7 (io), 9 GND (power), 10 PTC16 (io), 11 PTC17 (io), 12 PTC18 (io), 13 PTC19 (io), 14 PTA0/SWDIO (io), 15 PTA1/SWCLK (io), 16 GND (power), 17 PTA2/RESET (io), 18 PTA16 (io), 19 PTA17 (io), 20 PTA18 (io), 21 PTA19 (io), 22 PSWITCH (in), 23 DCDC_CFG (in), 24 GND (power), 25 VCC (power), 26 DCDC_LP (power), 27 V1P8 (power), 28 GND (power), 29 V1P5 (power), 30 PTB0 (io), 31 PTB1 (io), 32 PTB2 (io), 33 PTB3 (io), 34 PTB16 (io), 35 GND (power), 36 PTB17 (io), 37 PTB18 (io), 38 ADC0_P (in), 39 ADC0_N (in), 40 XTAL_OUT (out), 41 VREF (power), 42 VDDA (power), 43 GND (power), 44 GND (power), 45 GND (power)

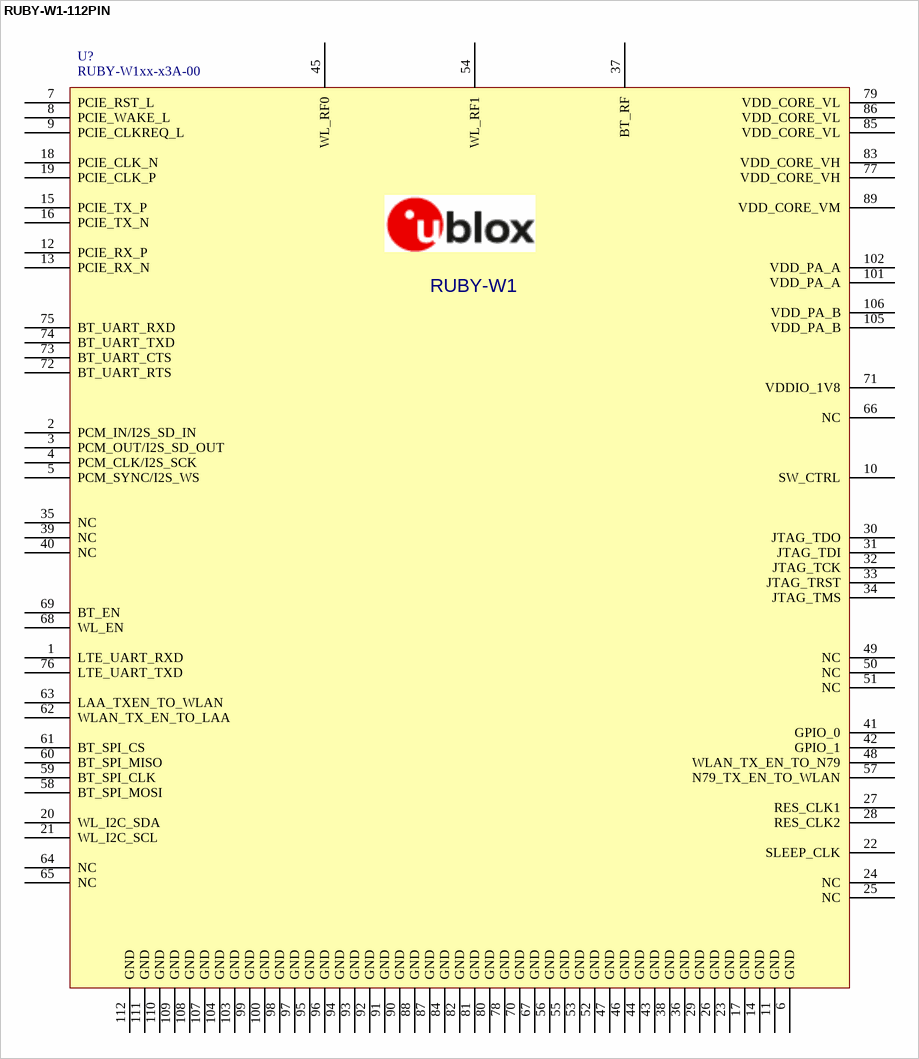
[diagram p18: symbol RUBY-W1-112PIN]

## RUBY-W1-112PIN
designator U?, comment RUBY-W1xx-x3A-00
LGA-RUBY-W1-112PIN / Host-based automotive module with Wi-Fi 6E and Dual-Mode Bluetooth
footprint RUBY-W1-LGA112PIN (Footprint not found)
footprint RUBY-Wx-LGA112PIN_SHARED (Shared footprint for RUBY-W1/RUBY-W2 - 23.0x23.0 mm/23.0x25.0 mm)
pins: 1 LTE_UART_RXD "WSI interface for LTE co-existing interface with LTE modem to enable firmware communication, input signal", 2 PCM_IN/I2S_SD_IN "Bluetooth PCM input signal/I2S_SD_IN,  I2S serial data input", 3 PCM_OUT/I2S_SD_OUT "Bluetooth PCM output signal  Internal 10 kΩ pull-up to VDDIO_1V8 on this pin", 4 PCM_CLK/I2S_SCK "Bluetooth PCM clock signal", 5 PCM_SYNC/I2S_WS "Bluetooth PCM synchronization signal", 6 GND (power), 7 PCIE_RST_L "PCIe host indication to reset the PCIe interface (active low) with weak pull-down", 8 PCIE_WAKE_L "PCIe wake-up signal (active low).   Internal 10 kΩ pull-up to VDDIO_1V8 on this pin", 9 PCIE_CLKREQ_L "PCIe clock request (active low)  Internal 10 kΩ pull-up to VDDIO_1V8 on this pin", 10 SW_CTRL "Switch request to external PMU between active and sleep mode", 11 GND (power), 12 PCIE_RX_P "PCIe positive differential data input", 13 PCIE_RX_N "PCIe negative differential data input", 14 GND (power), 15 PCIE_TX_P "PCIe positive differential data output", 16 PCIE_TX_N "PCIe negative differential data output", 17 GND (power), 18 PCIE_CLK_N "PCIe negative differential clock input", 19 PCIE_CLK_P "PCIe positive differential clock input", 20 WL_I2C_SDA "I2C Master bus Data.   Internal 10 kΩ pull-up to VDDIO_1V8 on this pin.", 21 WL_I2C_SCL "I2C Master bus Clock. The maximum clock rate is 400 kHz. Internal 10 kΩ pull-up to VDDIO_1V8 on this pin.", 22 SLEEP_CLK "External low-power 32.768 kHz clock input. A pull-down resistor is required if SLEEP_CLK is not used.", 23 GND (power), 24 NC, 25 NC, 26 GND (power), 27 RES_CLK1 "Reserved for signal clocking purposes", 28 RES_CLK2 "Reserved for signal clocking purposes", 29 GND (power), 30 JTAG_TDO "JTAG Test Data output. Bootstrap pin, see Table 4 in Datasheet", 31 JTAG_TDI "JTAG Test Data input", 32 JTAG_TCK "JTAG Test Clock", 33 JTAG_TRST "JTAG Test Reset", 34 JTAG_TMS "JTAG Test Mode Select", 35 NC, 36 GND (power), 37 BT_RF "Bluetooth RF input/output (RUBY-W183 only)", 38 GND (power), 39 NC, 40 NC, 41 GPIO_0 "Reserved signal for BSDL purposes  Bootstrap pin, see also Table 4  in Datasheet", 42 GPIO_1 "Reserved signal for BSDL purposes  Bootstrap pin, see also Table 4  in Datasheet", 43 GND (power), 44 GND (power), 45 WL_RF0 "WLAN RF ANT0 input/output for 2.4 GHz, 5/6 GHz (RUBY-W183) and Bluetooth (RUBY-W182)", 46 GND (power), 47 GND (power), 48 WLAN_TX_EN_TO_N79 "5G NR coexistence output signal to indicate 5/6 GHz chains are transmitting above a certain power level, and below a configurable channel frequency", 49 NC, 50 NC, 51 NC, 52 GND (power), 53 GND (power), 54 WL_RF1, 55 GND (power), 56 GND (power), 57 N79_TX_EN_TO_WLAN "5G NR coexistence input signal to indicate when N79 chain is set to transmit above a prescribed RF power", 58 BT_SPI_MOSI "Bluetooth SPI interface   Main Out Sub In (MOSI).  Bootstrap pin, see also Table 4 in Datasheet", 59 BT_SPI_CLK "Bluetooth SPI interface Clock  Internal 10 kΩ pull-up to VDDIO_1V8 on this pin", 60 BT_SPI_MISO "Bluetooth SPI interface  Main In Sub Out (MISO).  Internal 10 kΩ pull-up to VDDIO_1V8 on this pin", 61 BT_SPI_CS "Bluetooth SPI interface Chip select", 62 WLAN_TX_EN_TO_LAA "LTE-LAA coexistence output signal to indicate 5/6GHz chains are transmitting above a certain level", 63 LAA_TXEN_TO_WLAN "LTE-LAA coexistence input signal to indicate when LAA chain is set to transmit above a prescribed RF power", 64 NC, 65 NC, 66 NC, 67 GND (power), 68 WL_EN "WLAN enable signal. Input, active high to enable WLAN operation", 69 BT_EN "Bluetooth enable signal. Input, active high to enable Bluetooth operation", 70 GND (power), 71 VDDIO_1V8 (power) "Voltage for IO, See Table 15 in Datasheet", 72 BT_UART_RTS "Bluetooth UART active-low, request-to-send signal", 73 BT_UART_CTS "Bluetooth UART active-low,  clear-to-send signal", 74 BT_UART_TXD "Bluetooth UART serial data output", 75 BT_UART_RXD "Bluetooth UART serial data input", 76 LTE_UART_TXD "WSI interface for LTE co-existing interface with LTE modem to enable firmware communication, output signal. Bootstrap pin.  See also Table 4 in Datasheet", 77 VDD_CORE_VH (power) "Voltage for Core, high voltage,  See Table 15 in Datasheet", 78 GND (power), 79 VDD_CORE_VL (power) "Voltage for Core, low voltage,  See Table 15 in Datasheet", 80 GND (power), 81 GND (power), 82 GND (power), 83 VDD_CORE_VH (power) "Voltage for Core, high voltage.  See Table 15 in Datasheet", 84 GND (power), 85 VDD_CORE_VL (power) "Voltage for Core, low voltage  See Table 15 in Datasheet", 86 VDD_CORE_VL (power) "Voltage for Core, low voltage  See Table 15 in Datasheet", 87 GND (power), 88 GND (power), 89 VDD_CORE_VM (power) "Voltage for Core, mid voltage.  See Table 15 in Datasheet", 90 GND (power), 91 GND (power), 92 GND (power), 93 GND (power), 94 GND (power), 95 GND (power), 96 GND (power), 97 GND (power), 98 GND (power), 99 GND (power), 100 GND (power), 101 VDD_PA_A (power) "Voltage for PA in module.  See Table 15 in Datasheet", 102 VDD_PA_A (power) "Voltage for PA in module.  See Table 15 in Datasheet", 103 GND (power), 104 GND (power), 105 VDD_PA_B (power) "Voltage for PA in module.  See Table 15 in Datasheet", 106 VDD_PA_B (power) "Voltage for PA in module.  See Table 15 in Datasheet", 107 GND (power), 108 GND (power), 109 GND (power), 110 GND (power), 111 GND (power), 112 GND (power)
text: RUBY-W1

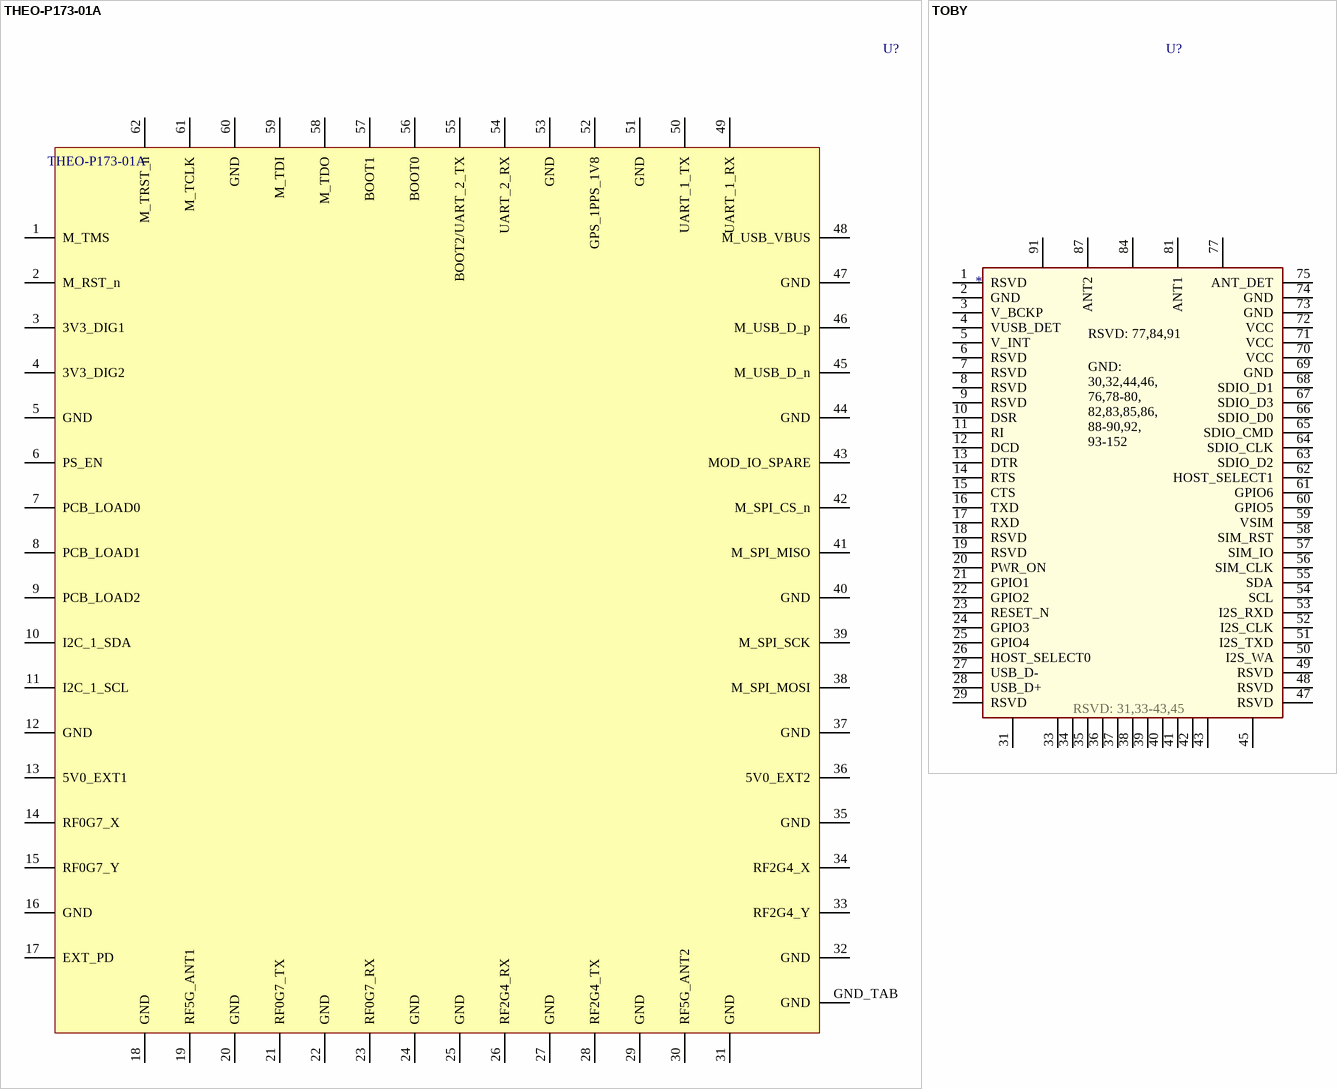
[diagram p19: symbols THEO-P173-01A to TOBY]

## THEO-P173-01A
designator U?
u-blox THEO-P173 host-based V2X transceiver module; Part Description: Host-based V2X transceiver module; Manufacturer: u-blox; Value: THEO-P173-01A
footprint THEO-P173-01A (Host-based V2X transceiver module)
pins: 1 M_TMS, 2 M_RST_n, 3 3V3_DIG1 (power), 4 3V3_DIG2 (power), 5 GND (power), 6 PS_EN, 7 PCB_LOAD0, 8 PCB_LOAD1, 9 PCB_LOAD2, 10 I2C_1_SDA, 11 I2C_1_SCL, 12 GND (power), 13 5V0_EXT1 (power), 14 RF0G7_X, 15 RF0G7_Y, 16 GND (power), 17 EXT_PD (power), 18 GND (power), 19 RF5G_ANT1, 20 GND (power), 21 RF0G7_TX, 22 GND (power), 23 RF0G7_RX, 24 GND (power), 25 GND (power), 26 RF2G4_RX, 27 GND (power), 28 RF2G4_TX, 29 GND (power), 30 RF5G_ANT2, 31 GND (power), 32 GND (power), 33 RF2G4_Y, 34 RF2G4_X, 35 GND (power), 36 5V0_EXT2 (power), 37 GND (power), 38 M_SPI_MOSI, 39 M_SPI_SCK, 40 GND (power), 41 M_SPI_MISO, 42 M_SPI_CS_n, 43 MOD_IO_SPARE, 44 GND (power), 45 M_USB_D_n, 46 M_USB_D_p, 47 GND (power), 48 M_USB_VBUS, 49 UART_1_RX, 50 UART_1_TX, 51 GND (power), 52 GPS_1PPS_1V8, 53 GND (power), 54 UART_2_RX, 55 BOOT2/UART_2_TX, 56 BOOT0, 57 BOOT1, 58 M_TDO, 59 M_TDI, 60 GND (power), 61 M_TCLK, 62 M_TRST_n, GND_TAB GND (power)

## TOBY
designator U?
u-blox TOBY cellular modems; Manufacturer: u-blox; Part Manufacturer: *; Value: *
footprint TOBY (TOBY cellular module)
pins: 1 RSVD, 2 GND, 3 V_BCKP, 4 VUSB_DET, 5 V_INT, 6 RSVD, 7 RSVD, 8 RSVD, 9 RSVD, 10 DSR, 11 RI, 12 DCD, 13 DTR, 14 RTS, 15 CTS, 16 TXD, 17 RXD, 18 RSVD, 19 RSVD, 20 PWR_ON, 21 GPIO1, 22 GPIO2, 23 RESET_N, 24 GPIO3, 25 GPIO4, 26 HOST_SELECT0, 27 USB_D-, 28 USB_D+, 29 RSVD, 30 GND, 31 RSVD, 32 GND, 33 RSVD, 34 RSVD, 35 RSVD, 36 RSVD, 37 RSVD, 38 RSVD, 39 RSVD, 40 RSVD, 41 RSVD, 42 RSVD, 43 RSVD, 44, 45 RSVD, 46, 47 RSVD, 48 RSVD, 49 RSVD, 50 I2S_WA, 51 I2S_TXD, 52 I2S_CLK, 53 I2S_RXD, 54 SCL, 55 SDA, 56 SIM_CLK, 57 SIM_IO, 58 SIM_RST, 59 VSIM, 60 GPIO5, 61 GPIO6, 62 HOST_SELECT1, 63 SDIO_D2, 64 SDIO_CLK, 65 SDIO_CMD, 66 SDIO_D0, 67 SDIO_D3, 68 SDIO_D1, 69 GND, 70 VCC, 71 VCC, 72 VCC, 73 GND, 74 GND, 75 ANT_DET, 76 155, 77 RSVD, 78 156, 79 GND, 80 GND, 81 ANT1, 82 44, 83 46, 84 RSVD, 85 155, 86 156, 87 ANT2, 88 157, 89 157, 90 157, 91 RSVD, 92 GND, 93 GND, 94 GND, 95 GND, 96 GND, 97 GND, 98 GND, 99 GND, 100 GND, 101 GND, 102 GND, 103 GND, 104 GND, 105 GND, 106 GND, 107 GND, 108 GND, 109 GND, 110 GND, 111 GND, 112 GND, 113 GND, 114 GND, 115 GND, 116 GND, 117 GND, 118 GND, 119 GND, 120 GND, 121 GND, 122 GND, 123 GND, 124 GND, 125 GND, 126 GND, 127 GND, 128 GND, 129 GND, 130 GND, 131 GND, 132 GND, 133 GND, 134 GND, 135 GND, 136 GND, 137 GND, 138 GND, 139 GND, 140 GND, 141 GND, 142 GND, 143 GND, 144 GND, 145 GND, 146 GND, 147 GND, 148 GND, 149 GND, 150 GND, 151 GND, 152 GND
text: RSVD: 77,84,91; GND: / 30,32,44,46, / 76,78-80, / 82,83,85,86, / 88-90,92, / 93-152; RSVD: 31,33-43,45